# EAGLE library part AS5FXXG04SND (library LinnesLab-DigitalIC)
AS5FxxG04SND-08LIN 1/2/4/8 Gbit QSPI NAND Flash Breakout Digi-Key Part Infomation Manufacturer's Part Number: AS5F34G04SND-08LIN Digi-Key Part Number: 1450-AS5F34G04SND-08LIN-ND Mouser Part Number: AS5F34G04SND-08LIN Mouser Part Infomation Manufacturer's Part Number: AS5F38G04SND-08LIN Digi-Key Part Number: 1450-AS5F38G04SND-08LIN-ND Mouser Part Number: 913-S5F38G04SND08LIN
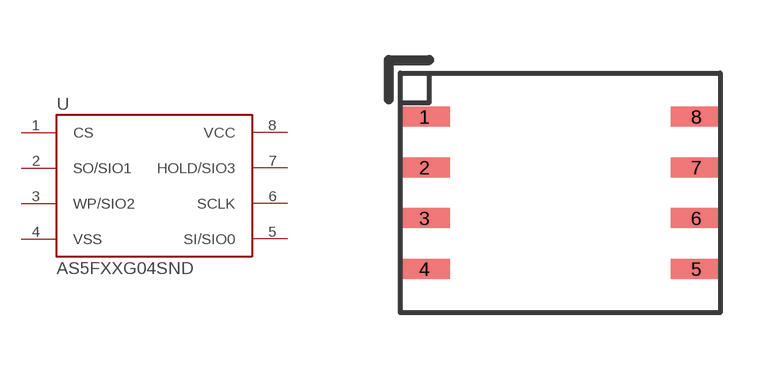
[diagram p27: symbol with the pads of 8-LGA; footprint 8-LGA]

Designator prefix U

## AS5FXXG04SND  [8-LGA]
1  CS
2  SO/SIO1
3  WP/SIO2
4  VSS
5  SI/SIO0
6  SCLK
7  HOLD/SIO3
8  VCC

## Footprint 8-LGA (pad centres in mm)
smd 1.27 x 0.5: 1 -3.4,1.905; 2 -3.4,0.635; 3 -3.4,-0.635; 4 -3.4,-1.905; 5 3.4,-1.905; 6 3.4,-0.635; 7 3.4,0.635; 8 3.4,1.905